# EAGLE library part PINHEAD_PINHD-1X8 (library v1-cellphone)
PIN HEADER
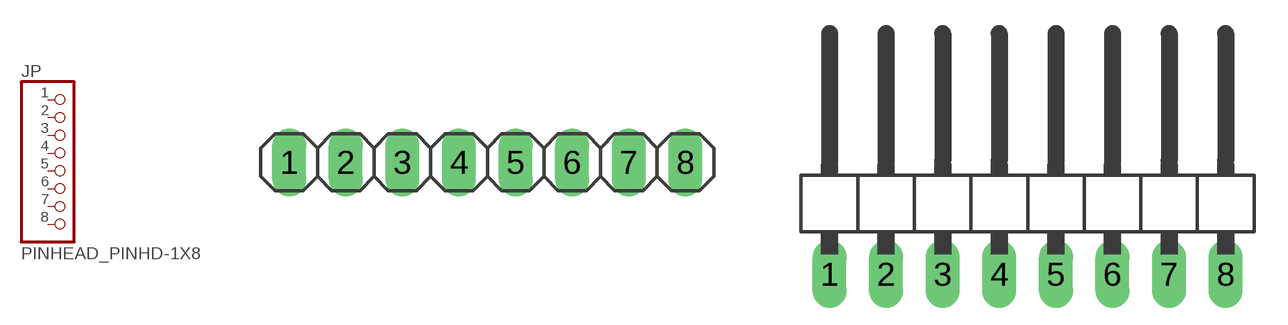
[diagram p6: symbol with the pads of PINHEAD_1X08; footprints PINHEAD_1X08, PINHEAD_1X08/90]

Designator prefix JP

## PINHEAD_PINHD-1X8  [PINHEAD_1X08]
1  1  pas
2  2  pas
3  3  pas
4  4  pas
5  5  pas
6  6  pas
7  7  pas
8  8  pas

## PINHEAD_PINHD-1X8/90  [PINHEAD_1X08/90]
Pads as for PINHEAD_1X08

## Footprint PINHEAD_1X08 (pad centres in mm)
PIN HEADER
drill 1.016 long: 1 -8.89,0; 2 -6.35,0; 3 -3.81,0; 4 -1.27,0; 5 1.27,0; 6 3.81,0; 7 6.35,0; 8 8.89,0

## Footprint PINHEAD_1X08/90 (pad centres in mm)
PIN HEADER
drill 1.016 long: 1 -8.89,-3.81; 2 -6.35,-3.81; 3 -3.81,-3.81; 4 -1.27,-3.81; 5 1.27,-3.81; 6 3.81,-3.81; 7 6.35,-3.81; 8 8.89,-3.81